# Altium footprint library Package_SON.PcbLib: 112 footprints (part 7 of 7)
Each footprint in its own frame and in the unit in brackets; x right, y up, seen from the top. Pads: shape width x height; smd on the part's side, far side on the other; paste and mask are expansions set on the pad; w line width, h text height; cw(c..) or ccw(c..) is an arc to the next point about the centre after c.
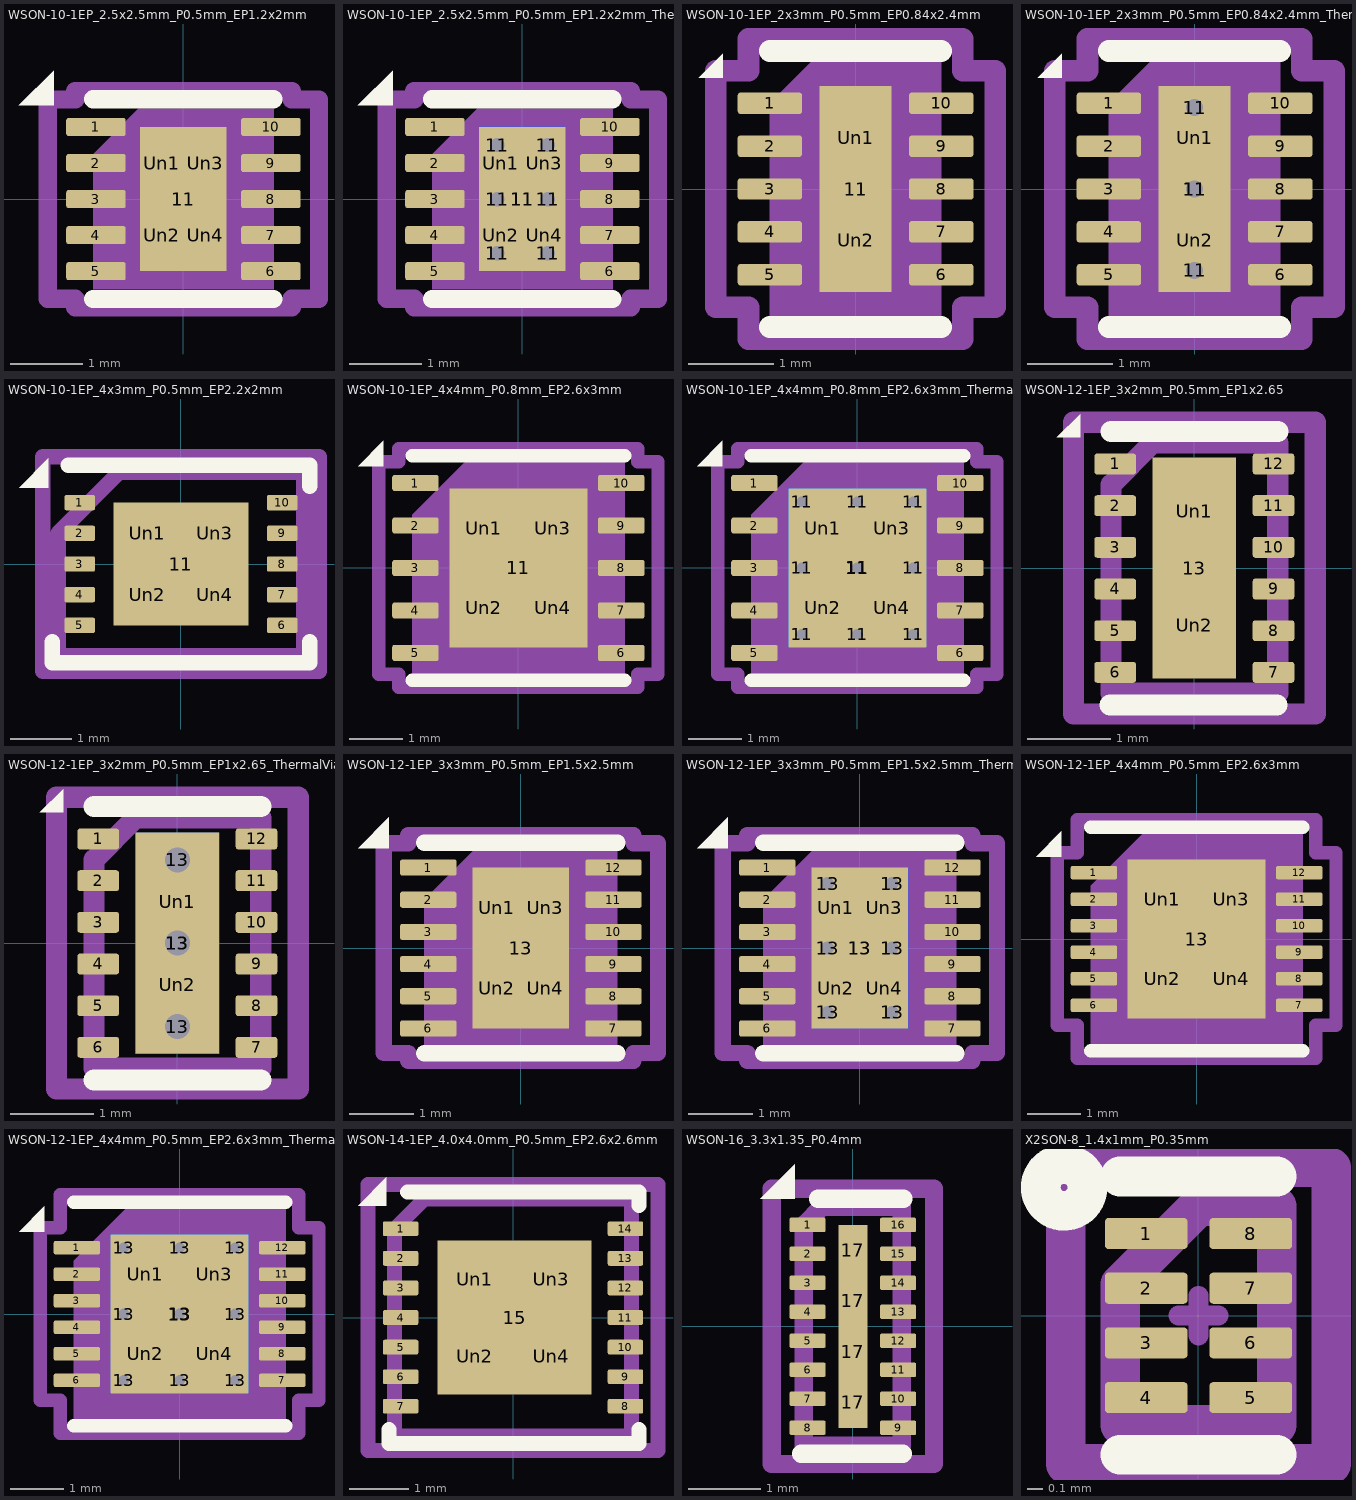
[diagram p6: the footprints below, top view; thin cyan lines are the x and y axes]

## WSON-10-1EP_2.5x2.5mm_P0.5mm_EP1.2x2mm [mm] "WSON-10-1EP_2.5x2.5mm_P0.5mm_EP1.2x2mm"
pads (15):
  rrect25% 0.825x0.25 smd: 1(-1.212,1) 2(-1.212,0.5) 3(-1.212,0) 4(-1.212,-0.5) 5(-1.212,-1) 6(1.212,-1) 7(1.212,-0.5) 8(1.212,0) 9(1.212,0.5) 10(1.212,1)
  rect 1.2x2 smd: 11(0,0)
  rrect25% 0.48x0.81 on Top Paste: Un1(-0.3,0.5) Un2(-0.3,-0.5) Un3(0.3,0.5) Un4(0.3,-0.5)
F.SilkS:
  region: -1.8,1.3 -2.28,1.3 -1.8,1.78
  lines w0.254: -1.25,-1.385 1.25,-1.385 ; -1.25,1.385 1.25,1.385
Top Component Center:
  lines w0.127: -0.127,0 0.127,0 ; 0,-0.127 0,0.127
Top Assembly:
  region: 1.25,-1.25 -1.25,-1.25 -1.25,0.625 -0.625,1.25 1.25,1.25
Top Courtyard:
  lines w0.254: -1.88,-1.38 -1.5,-1.38 -1.5,-1.5 1.5,-1.5 1.5,-1.38 1.88,-1.38 1.88,1.38 1.5,1.38 1.5,1.5 -1.5,1.5 -1.5,1.38 -1.88,1.38 -1.88,-1.38
Top Designator:
  text ".Designator" at -2.252,-0.226 h1
3D body "WSON-10-1EP_2.5x2.5mm_P0.5mm_EP1.2x2mm.step": height 0.76, standoff 0, extent -1.25,-1.238 1.25,1.238

## WSON-10-1EP_2.5x2.5mm_P0.5mm_EP1.2x2mm_ThermalVias [mm] "WSON-10-1EP_2.5x2.5mm_P0.5mm_EP1.2x2mm_ThermalVias"
pads (22):
  rrect25% 0.825x0.25 smd: 1(-1.212,1) 2(-1.212,0.5) 3(-1.212,0) 4(-1.212,-0.5) 5(-1.212,-1) 6(1.212,-1) 7(1.212,-0.5) 8(1.212,0) 9(1.212,0.5) 10(1.212,1)
  round 0.5 hole 0.2: 11(-0.35,-0.75) 11(-0.35,0) 11(-0.35,0.75) 11(0.35,-0.75) 11(0.35,0) 11(0.35,0.75)
  rect 1.2x2 smd: 11(0,0)
  rect 1.2x2 smd far side: 11(0,0)
  rrect25% 0.52x0.87 on Top Paste: Un1(-0.3,0.5) Un2(-0.3,-0.5) Un3(0.3,0.5) Un4(0.3,-0.5)
F.SilkS:
  region: -1.8,1.3 -2.28,1.3 -1.8,1.78
  lines w0.254: -1.25,-1.385 1.25,-1.385 ; -1.25,1.385 1.25,1.385
Top Component Center:
  lines w0.127: -0.127,0 0.127,0 ; 0,-0.127 0,0.127
Top Assembly:
  region: 1.25,-1.25 -1.25,-1.25 -1.25,0.625 -0.625,1.25 1.25,1.25
Top Courtyard:
  lines w0.254: -1.88,-1.38 -1.5,-1.38 -1.5,-1.5 1.5,-1.5 1.5,-1.38 1.88,-1.38 1.88,1.38 1.5,1.38 1.5,1.5 -1.5,1.5 -1.5,1.38 -1.88,1.38 -1.88,-1.38
Top Designator:
  text ".Designator" at -3.434,-0.345 h1.52
3D body "WSON-10-1EP_2.5x2.5mm_P0.5mm_EP1.2x2mm.step": height 0.76, standoff 0, extent -1.25,-1.238 1.25,1.238

## WSON-10-1EP_2x3mm_P0.5mm_EP0.84x2.4mm [mm] "WSON-10-1EP_2x3mm_P0.5mm_EP0.84x2.4mm"
pads (13):
  rrect25% 0.75x0.25 smd: 1(-1,1) 2(-1,0.5) 3(-1,0) 4(-1,-0.5) 5(-1,-1) 6(1,-1) 7(1,-0.5) 8(1,0) 9(1,0.5) 10(1,1)
  rect 0.84x2.4 smd: 11(0,0)
  rrect25% 0.68x0.97 on Top Paste: Un1(0,0.6) Un2(0,-0.6)
F.SilkS:
  region: -1.55,1.3 -1.83,1.3 -1.55,1.58
  lines w0.254: -1,-1.61 1,-1.61 ; -1,1.61 1,1.61
Top Component Center:
  lines w0.127: -0.127,0 0.127,0 ; 0,-0.127 0,0.127
Top Assembly:
  region: 1,-1.5 -1,-1.5 -1,1 -0.5,1.5 1,1.5
Top Courtyard:
  lines w0.254: -1.63,-1.38 -1.25,-1.38 -1.25,-1.75 1.25,-1.75 1.25,-1.38 1.63,-1.38 1.63,1.38 1.25,1.38 1.25,1.75 -1.25,1.75 -1.25,1.38 -1.63,1.38 -1.63,-1.38
Top Designator:
  text ".Designator" at -2.252,-0.226 h1
3D body "WSON-10-1EP_2x3mm_P0.5mm_EP0.84x2.4mm.step": height 0.75, standoff 0, extent -1,-1.488 1,1.488

## WSON-10-1EP_2x3mm_P0.5mm_EP0.84x2.4mm_ThermalVias [mm] "WSON-10-1EP_2x3mm_P0.5mm_EP0.84x2.4mm_ThermalVias"
pads (17):
  rrect25% 0.75x0.25 smd: 1(-1,1) 2(-1,0.5) 3(-1,0) 4(-1,-0.5) 5(-1,-1) 6(1,-1) 7(1,-0.5) 8(1,0) 9(1,0.5) 10(1,1)
  round 0.5 hole 0.2: 11(0,-0.95) 11(0,0) 11(0,0.95)
  rect 0.84x2.4 smd: 11(0,0)
  rect 0.5x2.4 smd far side: 11(0,0)
  rrect25% 0.73x1.04 on Top Paste: Un1(0,0.6) Un2(0,-0.6)
F.SilkS:
  region: -1.55,1.3 -1.83,1.3 -1.55,1.58
  lines w0.254: -1,-1.61 1,-1.61 ; -1,1.61 1,1.61
Top Component Center:
  lines w0.127: -0.127,0 0.127,0 ; 0,-0.127 0,0.127
Top Assembly:
  region: 1,-1.5 -1,-1.5 -1,1 -0.5,1.5 1,1.5
Top Courtyard:
  lines w0.254: -1.63,-1.38 -1.25,-1.38 -1.25,-1.75 1.25,-1.75 1.25,-1.38 1.63,-1.38 1.63,1.38 1.25,1.38 1.25,1.75 -1.25,1.75 -1.25,1.38 -1.63,1.38 -1.63,-1.38
Top Designator:
  text ".Designator" at -2.252,-0.226 h1
3D body "WSON-10-1EP_2x3mm_P0.5mm_EP0.84x2.4mm.step": height 0.75, standoff 0, extent -1,-1.488 1,1.488

## WSON-10-1EP_4x3mm_P0.5mm_EP2.2x2mm [mm] "WSON-10-1EP_4x3mm_P0.5mm_EP2.2x2mm"
pads (15):
  rrect25% 0.5x0.25 smd: 1(-1.65,1) 2(-1.65,0.5) 3(-1.65,0) 4(-1.65,-0.5) 5(-1.65,-1) 6(1.65,-1) 7(1.65,-0.5) 8(1.65,0) 9(1.65,0.5) 10(1.65,1)
  rect 2.2x2 smd: 11(0,0)
  rrect25% 0.88x0.8 on Top Paste: Un1(-0.55,0.5) Un2(-0.55,-0.5) Un3(0.55,0.5) Un4(0.55,-0.5)
F.SilkS:
  region: -2.16,1.24 -2.64,1.24 -2.16,1.72
  lines w0.254: -2.1,-1.27 -2.1,-1.61 2.1,-1.61 2.1,-1.27 ; -1.84,1.61 2.1,1.61 2.1,1.27
Top Component Center:
  lines w0.127: -0.127,0 0.127,0 ; 0,-0.127 0,0.127
Top Assembly:
  lines w0.254: -2,-1.5 2,-1.5 2,1.5 -1,1.5 -2,0.5 -2,-1.5
Top Courtyard:
  lines w0.254: -2.25,-1.75 2.25,-1.75 2.25,1.75 -2.25,1.75 -2.25,-1.75
Top Designator:
  text ".Designator" at -3.434,-0.345 h1.52

## WSON-10-1EP_4x4mm_P0.8mm_EP2.6x3mm [mm] "WSON-10-1EP_4x4mm_P0.8mm_EP2.6x3mm"
pads (15):
  rrect25% 0.875x0.3 smd: 1(-1.937,1.6) 2(-1.937,0.8) 3(-1.937,0) 4(-1.937,-0.8) 5(-1.937,-1.6) 6(1.937,-1.6) 7(1.937,-0.8) 8(1.937,0) 9(1.937,0.8) 10(1.937,1.6)
  rect 2.6x3 smd: 11(0,0)
  rrect24% 1.05x1.21 on Top Paste: Un1(-0.65,0.75) Un2(-0.65,-0.75) Un3(0.65,0.75) Un4(0.65,-0.75)
F.SilkS:
  region: -2.54,1.92 -3.02,1.92 -2.54,2.4
  lines w0.254: -2,-2.11 2,-2.11 ; -2,2.11 2,2.11
Top Component Center:
  lines w0.127: -0.127,0 0.127,0 ; 0,-0.127 0,0.127
Top Assembly:
  region: 2,-2 -2,-2 -2,1 -1,2 2,2
Top Courtyard:
  lines w0.254: -2.63,-2 -2.25,-2 -2.25,-2.25 2.25,-2.25 2.25,-2 2.63,-2 2.63,2 2.25,2 2.25,2.25 -2.25,2.25 -2.25,2 -2.63,2 -2.63,-2
Top Designator:
  text ".Designator" at -3.434,-0.345 h1.52
3D body "WSON-10-1EP_4x4mm_P0.8mm_EP2.6x3mm.step": height 0.8, standoff 0, extent -2,-1.975 2,1.975

## WSON-10-1EP_4x4mm_P0.8mm_EP2.6x3mm_ThermalVias [mm] "WSON-10-1EP_4x4mm_P0.8mm_EP2.6x3mm_ThermalVias"
pads (25):
  rrect25% 0.875x0.3 smd: 1(-1.937,1.6) 2(-1.937,0.8) 3(-1.937,0) 4(-1.937,-0.8) 5(-1.937,-1.6) 6(1.937,-1.6) 7(1.937,-0.8) 8(1.937,0) 9(1.937,0.8) 10(1.937,1.6)
  round 0.5 hole 0.2: 11(-1.05,-1.25) 11(-1.05,0) 11(-1.05,1.25) 11(0,-1.25) 11(0,0) 11(0,1.25) 11(1.05,-1.25) 11(1.05,0) 11(1.05,1.25)
  rect 2.6x3 smd: 11(0,0)
  rect 2.6x3 smd far side: 11(0,0)
  rrect22% 1.13x1.3 on Top Paste: Un1(-0.65,0.75) Un2(-0.65,-0.75) Un3(0.65,0.75) Un4(0.65,-0.75)
F.SilkS:
  region: -2.54,1.92 -3.02,1.92 -2.54,2.4
  lines w0.254: -2,-2.11 2,-2.11 ; -2,2.11 2,2.11
Top Component Center:
  lines w0.127: -0.127,0 0.127,0 ; 0,-0.127 0,0.127
Top Assembly:
  region: 2,-2 -2,-2 -2,1 -1,2 2,2
Top Courtyard:
  lines w0.254: -2.63,-2 -2.25,-2 -2.25,-2.25 2.25,-2.25 2.25,-2 2.63,-2 2.63,2 2.25,2 2.25,2.25 -2.25,2.25 -2.25,2 -2.63,2 -2.63,-2
Top Designator:
  text ".Designator" at -3.434,-0.345 h1.52
3D body "WSON-10-1EP_4x4mm_P0.8mm_EP2.6x3mm.step": height 0.8, standoff 0, extent -2,-1.975 2,1.975

## WSON-12-1EP_3x2mm_P0.5mm_EP1x2.65 [mm]
pads (15):
  rrect25% 0.5x0.25 smd: 1(-0.95,1.25) 2(-0.95,0.75) 3(-0.95,0.25) 4(-0.95,-0.25) 5(-0.95,-0.75) 6(-0.95,-1.25) 7(0.95,-1.25) 8(0.95,-0.75) 9(0.95,-0.25) 10(0.95,0.25) 11(0.95,0.75) 12(0.95,1.25)
  rect 1x2.65 smd: 13(0,0)
  rect 0.95x1.17 on Top Paste: Un1(0,0.685) Un2(0,-0.685)
F.SilkS:
  region: -1.37,1.57 -1.65,1.57 -1.37,1.85
  lines w0.254: -1.01,-1.64 0.99,-1.64 ; -1,1.64 1,1.64
Top Component Center:
  lines w0.127: -0.127,0 0.127,0 ; 0,-0.127 0,0.127
Top Assembly:
  lines w0.254: -1,-1.5 1,-1.5 1,1.5 -0.5,1.5 -1,1 -1,-1.5
Top Courtyard:
  lines w0.254: -1.45,-1.75 1.45,-1.75 1.45,1.75 -1.45,1.75 -1.45,-1.75
Top Designator:
  text ".Designator" at -2.252,-0.226 h1

## WSON-12-1EP_3x2mm_P0.5mm_EP1x2.65_ThermalVias [mm] "WSON-12-1EP_3x2mm_P0.5mm_EP1x2.65_ThermalVias"
pads (19):
  rrect25% 0.5x0.25 smd: 1(-0.95,1.25) 2(-0.95,0.75) 3(-0.95,0.25) 4(-0.95,-0.25) 5(-0.95,-0.75) 6(-0.95,-1.25) 7(0.95,-1.25) 8(0.95,-0.75) 9(0.95,-0.25) 10(0.95,0.25) 11(0.95,0.75) 12(0.95,1.25)
  round 0.6 hole 0.3: 13(0,-1) 13(0,0) 13(0,1)
  rect 1x2.65 smd: 13(0,0)
  rect 1x2.65 smd far side: 13(0,0)
  rect 0.95x0.8 on Top Paste: Un1(0,0.5) Un2(0,-0.5)
F.SilkS:
  region: -1.37,1.57 -1.65,1.57 -1.37,1.85
  lines w0.254: -1,-1.64 1,-1.64 ; -1,1.64 1,1.64
Top Component Center:
  lines w0.127: -0.127,0 0.127,0 ; 0,-0.127 0,0.127
Top Assembly:
  lines w0.254: -1,-1.5 1,-1.5 1,1.5 -0.5,1.5 -1,1 -1,-1.5
Top Courtyard:
  lines w0.254: -1.45,-1.75 1.45,-1.75 1.45,1.75 -1.45,1.75 -1.45,-1.75
Top Designator:
  text ".Designator" at -2.252,-0.226 h1

## WSON-12-1EP_3x3mm_P0.5mm_EP1.5x2.5mm [mm] "WSON-12-1EP_3x3mm_P0.5mm_EP1.5x2.5mm"
pads (17):
  rrect25% 0.875x0.25 smd: 1(-1.438,1.25) 2(-1.438,0.75) 3(-1.438,0.25) 4(-1.438,-0.25) 5(-1.438,-0.75) 6(-1.438,-1.25) 7(1.438,-1.25) 8(1.438,-0.75) 9(1.438,-0.25) 10(1.438,0.25) 11(1.438,0.75) 12(1.438,1.25)
  rect 1.5x2.5 smd: 13(0,0)
  rrect25% 0.6x1.01 on Top Paste: Un1(-0.375,0.625) Un2(-0.375,-0.625) Un3(0.375,0.625) Un4(0.375,-0.625)
F.SilkS:
  region: -2.05,1.55 -2.53,1.55 -2.05,2.03
  lines w0.254: -1.5,-1.635 1.5,-1.635 ; -1.5,1.635 1.5,1.635
Top Component Center:
  lines w0.127: -0.127,0 0.127,0 ; 0,-0.127 0,0.127
Top Assembly:
  region: 1.5,-1.5 -1.5,-1.5 -1.5,0.75 -0.75,1.5 1.5,1.5
Top Courtyard:
  lines w0.254: -2.13,-1.63 -1.75,-1.63 -1.75,-1.75 1.75,-1.75 1.75,-1.63 2.13,-1.63 2.13,1.63 1.75,1.63 1.75,1.75 -1.75,1.75 -1.75,1.63 -2.13,1.63 -2.13,-1.63
Top Designator:
  text ".Designator" at -3.434,-0.345 h1.52

## WSON-12-1EP_3x3mm_P0.5mm_EP1.5x2.5mm_ThermalVias [mm] "WSON-12-1EP_3x3mm_P0.5mm_EP1.5x2.5mm_ThermalVias"
pads (24):
  rrect25% 0.875x0.25 smd: 1(-1.438,1.25) 2(-1.438,0.75) 3(-1.438,0.25) 4(-1.438,-0.25) 5(-1.438,-0.75) 6(-1.438,-1.25) 7(1.438,-1.25) 8(1.438,-0.75) 9(1.438,-0.25) 10(1.438,0.25) 11(1.438,0.75) 12(1.438,1.25)
  round 0.5 hole 0.2: 13(-0.5,-1) 13(-0.5,0) 13(-0.5,1) 13(0.5,-1) 13(0.5,0) 13(0.5,1)
  rect 1.5x2.5 smd: 13(0,0)
  rect 1.5x2.5 smd far side: 13(0,0)
  rrect25% 0.65x1.08 on Top Paste: Un1(-0.375,0.625) Un2(-0.375,-0.625) Un3(0.375,0.625) Un4(0.375,-0.625)
F.SilkS:
  region: -2.05,1.55 -2.53,1.55 -2.05,2.03
  lines w0.254: -1.5,-1.635 1.5,-1.635 ; -1.5,1.635 1.5,1.635
Top Component Center:
  lines w0.127: -0.127,0 0.127,0 ; 0,-0.127 0,0.127
Top Assembly:
  region: 1.5,-1.5 -1.5,-1.5 -1.5,0.75 -0.75,1.5 1.5,1.5
Top Courtyard:
  lines w0.254: -2.13,-1.63 -1.75,-1.63 -1.75,-1.75 1.75,-1.75 1.75,-1.63 2.13,-1.63 2.13,1.63 1.75,1.63 1.75,1.75 -1.75,1.75 -1.75,1.63 -2.13,1.63 -2.13,-1.63
Top Designator:
  text ".Designator" at -3.434,-0.345 h1.52

## WSON-12-1EP_4x4mm_P0.5mm_EP2.6x3mm [mm] "WSON-12-1EP_4x4mm_P0.5mm_EP2.6x3mm"
pads (17):
  rrect25% 0.875x0.25 smd: 1(-1.937,1.25) 2(-1.937,0.75) 3(-1.937,0.25) 4(-1.937,-0.25) 5(-1.937,-0.75) 6(-1.937,-1.25) 7(1.937,-1.25) 8(1.937,-0.75) 9(1.937,-0.25) 10(1.937,0.25) 11(1.937,0.75) 12(1.937,1.25)
  rect 2.6x3 smd: 13(0,0)
  rrect24% 1.05x1.21 on Top Paste: Un1(-0.65,0.75) Un2(-0.65,-0.75) Un3(0.65,0.75) Un4(0.65,-0.75)
F.SilkS:
  region: -2.55,1.55 -3.03,1.55 -2.55,2.03
  lines w0.254: -2,-2.11 2,-2.11 ; -2,2.11 2,2.11
Top Component Center:
  lines w0.127: -0.127,0 0.127,0 ; 0,-0.127 0,0.127
Top Assembly:
  region: 2,-2 -2,-2 -2,1 -1,2 2,2
Top Courtyard:
  lines w0.254: -2.63,-1.63 -2.25,-1.63 -2.25,-2.25 2.25,-2.25 2.25,-1.63 2.63,-1.63 2.63,1.63 2.25,1.63 2.25,2.25 -2.25,2.25 -2.25,1.63 -2.63,1.63 -2.63,-1.63
Top Designator:
  text ".Designator" at -3.434,-0.345 h1.52

## WSON-12-1EP_4x4mm_P0.5mm_EP2.6x3mm_ThermalVias [mm] "WSON-12-1EP_4x4mm_P0.5mm_EP2.6x3mm_ThermalVias"
pads (27):
  rrect25% 0.875x0.25 smd: 1(-1.937,1.25) 2(-1.937,0.75) 3(-1.937,0.25) 4(-1.937,-0.25) 5(-1.937,-0.75) 6(-1.937,-1.25) 7(1.937,-1.25) 8(1.937,-0.75) 9(1.937,-0.25) 10(1.937,0.25) 11(1.937,0.75) 12(1.937,1.25)
  round 0.5 hole 0.2: 13(-1.05,-1.25) 13(-1.05,0) 13(-1.05,1.25) 13(0,-1.25) 13(0,0) 13(0,1.25) 13(1.05,-1.25) 13(1.05,0) 13(1.05,1.25)
  rect 2.6x3 smd: 13(0,0)
  rect 2.6x3 smd far side: 13(0,0)
  rrect22% 1.13x1.3 on Top Paste: Un1(-0.65,0.75) Un2(-0.65,-0.75) Un3(0.65,0.75) Un4(0.65,-0.75)
F.SilkS:
  region: -2.55,1.55 -3.03,1.55 -2.55,2.03
  lines w0.254: -2,-2.11 2,-2.11 ; -2,2.11 2,2.11
Top Component Center:
  lines w0.127: -0.127,0 0.127,0 ; 0,-0.127 0,0.127
Top Assembly:
  region: 2,-2 -2,-2 -2,1 -1,2 2,2
Top Courtyard:
  lines w0.254: -2.63,-1.63 -2.25,-1.63 -2.25,-2.25 2.25,-2.25 2.25,-1.63 2.63,-1.63 2.63,1.63 2.25,1.63 2.25,2.25 -2.25,2.25 -2.25,1.63 -2.63,1.63 -2.63,-1.63
Top Designator:
  text ".Designator" at -3.434,-0.345 h1.52

## WSON-14-1EP_4.0x4.0mm_P0.5mm_EP2.6x2.6mm [mm] "WSON-14-1EP_4.0x4.0mm_P0.5mm_EP2.6x2.6mm"
pads (19):
  rrect25% 0.6x0.25 smd: 1(-1.9,1.5) 2(-1.9,1) 3(-1.9,0.5) 4(-1.9,0) 5(-1.9,-0.5) 6(-1.9,-1) 7(-1.9,-1.5) 8(1.9,-1.5) 9(1.9,-1) 10(1.9,-0.5) 11(1.9,0) 12(1.9,0.5) 13(1.9,1) 14(1.9,1.5)
  rect 2.6x2.6 smd: 15(0.025,0)
  rect 1.05x1.05 on Top Paste: Un1(-0.65,0.65) Un2(-0.65,-0.65) Un3(0.65,0.65) Un4(0.65,-0.65)
F.SilkS:
  region: -2.14,1.89 -2.62,1.89 -2.14,2.37
  lines w0.254: -2.1,-1.89 -2.1,-2.125 2.125,-2.125 2.125,-1.89 ; -1.78,2.125 2.125,2.125 2.125,1.89
Top Component Center:
  lines w0.127: -0.127,0 0.127,0 ; 0,-0.127 0,0.127
Top Assembly:
  lines w0.254: -1,2 2,2 ; 2,2 2,-2 -2,-2 -2,1.5 -1.5,2 2,2
Top Courtyard:
  lines w0.254: -2.45,-2.25 -2.45,2.25 2.45,2.25 2.45,-2.25 -2.44,-2.25
Top Designator:
  text ".Designator" at -3.434,-0.345 h1.52
3D body "WSON-14-1EP_4.0x4.0mm_P0.5mm_EP2.6x2.6mm.step": height 0.82, standoff 0, extent -2,-1.99 2,1.99

## WSON-16_3.3x1.35_P0.4mm [mm] "WSON-16_3.3x1.35_P0.4mm"
pads (20):
  rrect25% 0.5x0.2 smd: 1(-0.625,1.4) 2(-0.625,1) 3(-0.625,0.6) 4(-0.625,0.2) 5(-0.625,-0.2) 6(-0.625,-0.6) 7(-0.625,-1) 8(-0.625,-1.4) 9(0.625,-1.4) 10(0.625,-1) 11(0.625,-0.6) 12(0.625,-0.2) 13(0.625,0.2) 14(0.625,0.6) 15(0.625,1) 16(0.625,1.4)
  rect 0.4x0.7 smd: 17(0,-1.05) 17(0,-0.35) 17(0,0.35) 17(0,1.05)
F.SilkS:
  region: -0.8,1.76 -1.28,1.76 -0.8,2.24
  lines w0.254: -0.71,-1.76 0.69,-1.76 ; -0.48,1.76 0.7,1.76
Top Component Center:
  lines w0.127: -0.127,0 0.127,0 ; 0,-0.127 0,0.127
Top Assembly:
  lines w0.254: -0.675,-1.65 0.675,-1.65 0.675,1.65 -0.425,1.65 -0.675,1.4 -0.675,-1.65
Top Courtyard:
  lines w0.254: -1.12,-1.9 1.12,-1.9 1.12,1.9 -1.12,1.9 -1.12,-1.9
Top Designator:
  text ".Designator" at -1.689,-0.17 h0.75
3D body "WSON-16_3.3x1.35_P0.4mm.step": height 0.77, standoff 0, extent -0.675,-1.64 0.675,1.64

## X2SON-8_1.4x1mm_P0.35mm [mm] "X2SON-8_1.4x1mm_P0.35mm"
pads (8):
  rrect25% 0.53x0.2 smd: 1(-0.335,0.525) 2(-0.335,0.175) 3(-0.335,-0.175) 4(-0.335,-0.525) 5(0.335,-0.525) 6(0.335,-0.175) 7(0.335,0.175) 8(0.335,0.525)
F.SilkS:
  circle w0.254: c-0.86,0.82 r0.15
  lines w0.254: -0.5,-0.89 0.5,-0.89 ; -0.5,0.89 0.5,0.89
Top Component Center:
  lines w0.127: -0.127,0 0.127,0 ; 0,-0.127 0,0.127
Top Assembly:
  lines w0.254: -0.5,-0.7 0.5,-0.7 0.5,0.7 0,0.7 -0.5,0.2 -0.5,-0.7
Top Courtyard:
  lines w0.254: -0.85,-0.95 0.85,-0.95 0.85,0.95 -0.85,0.95 -0.85,-0.95
Top Designator:
  text ".Designator" at -1.689,-0.17 h0.75
3D body "X2SON-8_1.4x1mm_P0.35mm.step": height 0.39, standoff 0, extent -0.5,-0.69 0.5,0.69